# Altium schematic symbol library SCH - MCU - ATMEGA - MICROCHIP ATXMEGA64B1-AU TQFP100.SchLib: 1 symbol
Pins are listed as number, name and electrical type; pins without a type are passive.

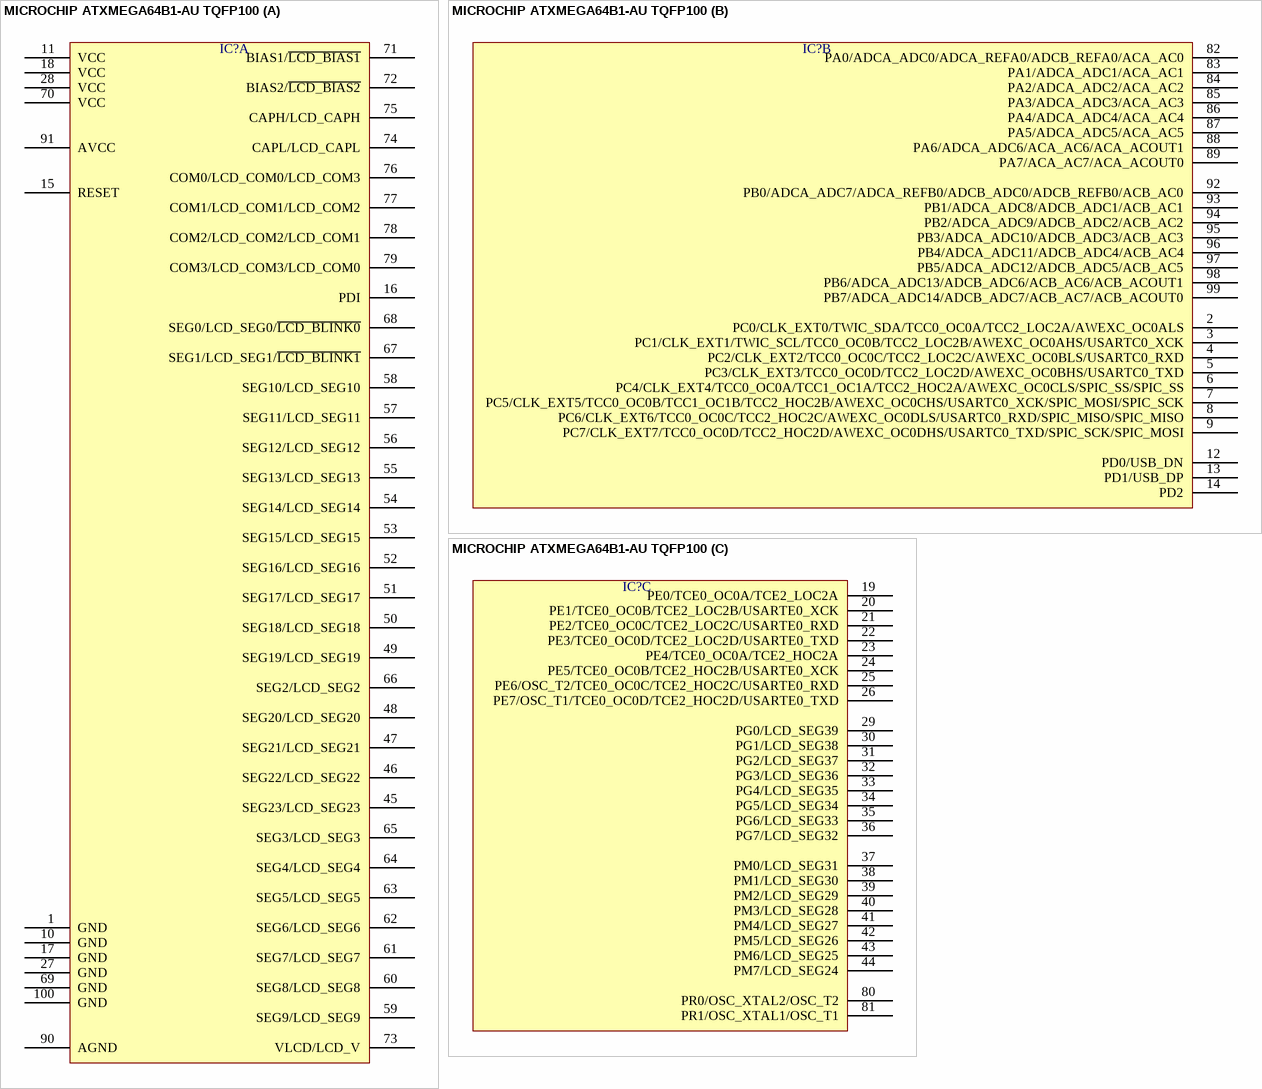
[diagram p0: symbol MICROCHIP ATXMEGA64B1-AU TQFP100]

## MICROCHIP ATXMEGA64B1-AU TQFP100
designator IC?  (value not drawn)
part A pins: 1 GND, 10 GND, 11 VCC, 15 RESET, 16 PDI, 17 GND, 18 VCC, 27 GND, 28 VCC, 45 SEG23/LCD_SEG23, 46 SEG22/LCD_SEG22, 47 SEG21/LCD_SEG21, 48 SEG20/LCD_SEG20, 49 SEG19/LCD_SEG19, 50 SEG18/LCD_SEG18, 51 SEG17/LCD_SEG17, 52 SEG16/LCD_SEG16, 53 SEG15/LCD_SEG15, 54 SEG14/LCD_SEG14, 55 SEG13/LCD_SEG13, 56 SEG12/LCD_SEG12, 57 SEG11/LCD_SEG11, 58 SEG10/LCD_SEG10, 59 SEG9/LCD_SEG9, 60 SEG8/LCD_SEG8, 61 SEG7/LCD_SEG7, 62 SEG6/LCD_SEG6, 63 SEG5/LCD_SEG5, 64 SEG4/LCD_SEG4, 65 SEG3/LCD_SEG3, 66 SEG2/LCD_SEG2, 67 SEG1/LCD_SEG1/~{LCD_BLINK1}, 68 SEG0/LCD_SEG0/~{LCD_BLINK0}, 69 GND, 70 VCC, 71 BIAS1/~{LCD_BIAS1}, 72 BIAS2/~{LCD_BIAS2}, 73 VLCD/LCD_V, 74 CAPL/LCD_CAPL, 75 CAPH/LCD_CAPH, 76 COM0/LCD_COM0/LCD_COM3, 77 COM1/LCD_COM1/LCD_COM2, 78 COM2/LCD_COM2/LCD_COM1, 79 COM3/LCD_COM3/LCD_COM0, 90 AGND, 91 AVCC, 100 GND
part B pins: 2 PC0/CLK_EXT0/TWIC_SDA/TCC0_OC0A/TCC2_LOC2A/AWEXC_OC0ALS, 3 PC1/CLK_EXT1/TWIC_SCL/TCC0_OC0B/TCC2_LOC2B/AWEXC_OC0AHS/USARTC0_XCK, 4 PC2/CLK_EXT2/TCC0_OC0C/TCC2_LOC2C/AWEXC_OC0BLS/USARTC0_RXD, 5 PC3/CLK_EXT3/TCC0_OC0D/TCC2_LOC2D/AWEXC_OC0BHS/USARTC0_TXD, 6 PC4/CLK_EXT4/TCC0_OC0A/TCC1_OC1A/TCC2_HOC2A/AWEXC_OC0CLS/SPIC_SS/SPIC_SS, 7 PC5/CLK_EXT5/TCC0_OC0B/TCC1_OC1B/TCC2_HOC2B/AWEXC_OC0CHS/USARTC0_XCK/SPIC_MOSI/SPIC_SCK, 8 PC6/CLK_EXT6/TCC0_OC0C/TCC2_HOC2C/AWEXC_OC0DLS/USARTC0_RXD/SPIC_MISO/SPIC_MISO, 9 PC7/CLK_EXT7/TCC0_OC0D/TCC2_HOC2D/AWEXC_OC0DHS/USARTC0_TXD/SPIC_SCK/SPIC_MOSI, 12 PD0/USB_DN, 13 PD1/USB_DP, 14 PD2, 82 PA0/ADCA_ADC0/ADCA_REFA0/ADCB_REFA0/ACA_AC0, 83 PA1/ADCA_ADC1/ACA_AC1, 84 PA2/ADCA_ADC2/ACA_AC2, 85 PA3/ADCA_ADC3/ACA_AC3, 86 PA4/ADCA_ADC4/ACA_AC4, 87 PA5/ADCA_ADC5/ACA_AC5, 88 PA6/ADCA_ADC6/ACA_AC6/ACA_ACOUT1, 89 PA7/ACA_AC7/ACA_ACOUT0, 92 PB0/ADCA_ADC7/ADCA_REFB0/ADCB_ADC0/ADCB_REFB0/ACB_AC0, 93 PB1/ADCA_ADC8/ADCB_ADC1/ACB_AC1, 94 PB2/ADCA_ADC9/ADCB_ADC2/ACB_AC2, 95 PB3/ADCA_ADC10/ADCB_ADC3/ACB_AC3, 96 PB4/ADCA_ADC11/ADCB_ADC4/ACB_AC4, 97 PB5/ADCA_ADC12/ADCB_ADC5/ACB_AC5, 98 PB6/ADCA_ADC13/ADCB_ADC6/ACB_AC6/ACB_ACOUT1, 99 PB7/ADCA_ADC14/ADCB_ADC7/ACB_AC7/ACB_ACOUT0
part C pins: 19 PE0/TCE0_OC0A/TCE2_LOC2A, 20 PE1/TCE0_OC0B/TCE2_LOC2B/USARTE0_XCK, 21 PE2/TCE0_OC0C/TCE2_LOC2C/USARTE0_RXD, 22 PE3/TCE0_OC0D/TCE2_LOC2D/USARTE0_TXD, 23 PE4/TCE0_OC0A/TCE2_HOC2A, 24 PE5/TCE0_OC0B/TCE2_HOC2B/USARTE0_XCK, 25 PE6/OSC_T2/TCE0_OC0C/TCE2_HOC2C/USARTE0_RXD, 26 PE7/OSC_T1/TCE0_OC0D/TCE2_HOC2D/USARTE0_TXD, 29 PG0/LCD_SEG39, 30 PG1/LCD_SEG38, 31 PG2/LCD_SEG37, 32 PG3/LCD_SEG36, 33 PG4/LCD_SEG35, 34 PG5/LCD_SEG34, 35 PG6/LCD_SEG33, 36 PG7/LCD_SEG32, 37 PM0/LCD_SEG31, 38 PM1/LCD_SEG30, 39 PM2/LCD_SEG29, 40 PM3/LCD_SEG28, 41 PM4/LCD_SEG27, 42 PM5/LCD_SEG26, 43 PM6/LCD_SEG25, 44 PM7/LCD_SEG24, 80 PR0/OSC_XTAL2/OSC_T2, 81 PR1/OSC_XTAL1/OSC_T1